# Altium footprint library 通信接口.PcbLib: 2 footprints
Each footprint in its own frame and in the unit in brackets; x right, y up, seen from the top. Pads: shape width x height; smd on the part's side, far side on the other; paste and mask are expansions set on the pad; w line width, h text height; cw(c..) or ccw(c..) is an arc to the next point about the centre after c.
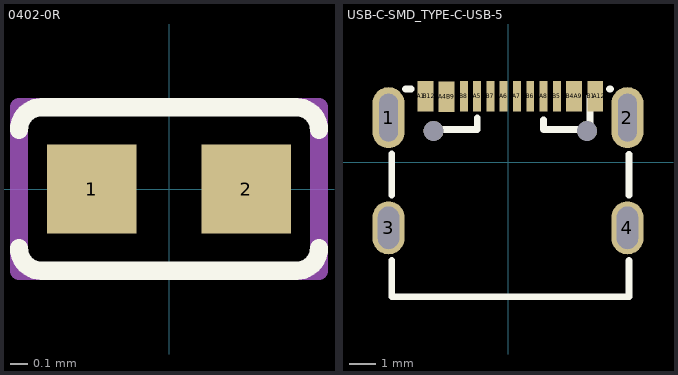
[diagram p0: the footprints below, top view; thin cyan lines are the x and y axes]

## 0402-0R [mm] "选择焊盘"
height 4.3
pads (2):
  rect 0.5x0.5 smd: 1(-0.432,0) 2(0.432,0)
Top Overlay:
  lines w0.102: -0.838,-0.33 ccw(c-0.711,-0.33) -0.711,-0.457 0.711,-0.457 ccw(c0.711,-0.33) 0.838,-0.33 ; -0.838,0.33 cw(c-0.711,0.33) -0.711,0.457 0.711,0.457 cw(c0.711,0.33) 0.838,0.33
Mechanical 15:
  lines w0.1: -0.838,-0.457 0.838,-0.457 0.838,0.457 -0.838,0.457 -0.838,-0.457

## USB-C-SMD_TYPE-C-USB-5 [mm]
pads (22):
  oval 1.2x2.3 hole 0.7 slot 1.8 at 90 deg: 1(-4.5,1.675) 2(4.5,1.675)
  oval 1.2x2 hole 0.8 slot 1.6 at 90 deg: 3(-4.5,-2.475) 4(4.5,-2.475)
  rect 0.3x1.15 smd: A1(-3.263,2.473) A4(-2.462,2.471) A5(-1.162,2.475) A6(-0.162,2.475) A7(0.337,2.473) A9(2.638,2.475) A12(3.438,2.475) B1(3.138,2.475) B4(2.337,2.475) B5(1.838,2.475) B6(0.838,2.475) B7(-0.663,2.473) B9(-2.162,2.471) B12(-2.963,2.473)
  rect 0.3x1.148 smd: A8(1.337,2.475) B8(-1.663,2.475)
  round 0.75 hole 0.75 unplated: ""(-2.803,1.175) ""(2.978,1.175)
Top Overlay:
  lines w0.254: -4.382,-3.698 -4.382,-5.075 4.557,-5.075 4.557,-3.704 ; -4.382,-1.252 -4.382,0.302 ; -3.856,2.75 -3.644,2.75 ; -2.912,1.225 -1.162,1.225 -1.162,1.669 ; 1.335,1.599 1.335,1.228 3.085,1.228 3.085,2.478 ; 3.819,2.75 3.856,2.75 ; 4.557,-1.246 4.557,0.296
3D body "USB Type-C_A.STEP": height 3.25, standoff -0.85, extent -4.343,-5.14 4.597,2.76